# Altium schematic symbol library TSOP1838.SchLib: 1 symbol
Pins are listed as number, name and electrical type; pins without a type are passive.

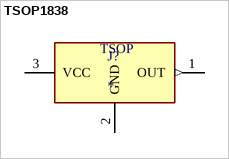
[diagram p0: symbol TSOP1838]

## TSOP1838
designator J?
IR Remote Receiver 38KHz 35m 3-Pin; MF: Vishay; MP: TSOP1838; SnapEDA_Link: https://www.snapeda.com/parts/TSOP1838/Vishay/view-part/?ref=snap; Package: None; Value: *; Check_prices: https://www.snapeda.com/parts/TSOP1838/Vishay/view-part/?ref=eda
footprint TSOP1838
pins: 1 OUT (out), 2 GND (power), 3 VCC (power)
text: TSOP